# EAGLE library part RC2000MDEVICE (library RC2000M)
Rabbit 2000 Core Module
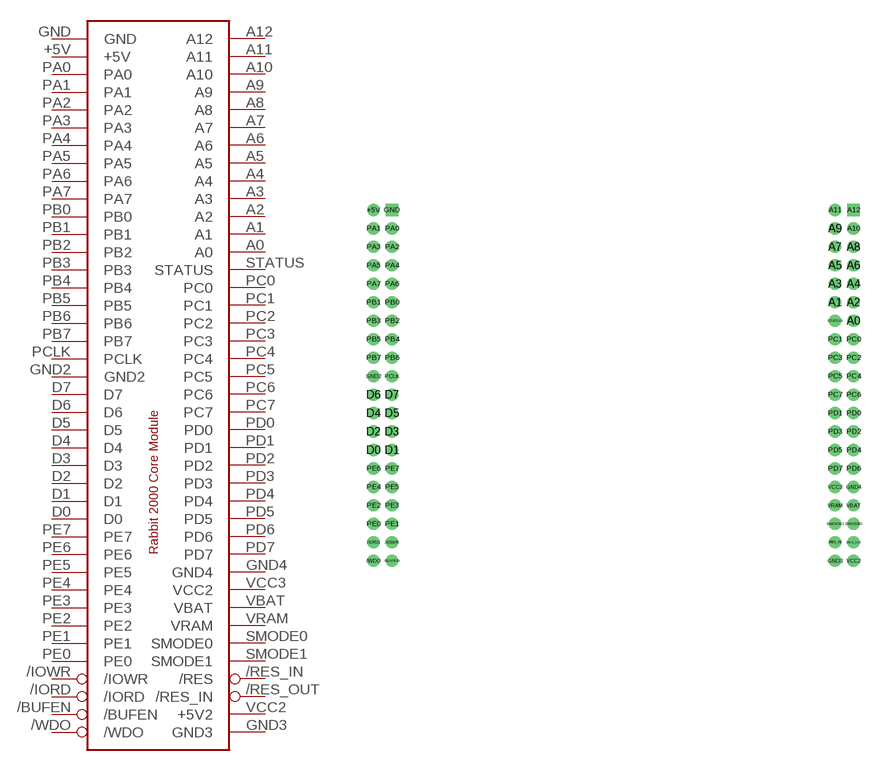
[diagram p0: symbol with the pads of RC2000M; footprint RC2000M]

Designator prefix RC

## RC2000MDEVICE  [RC2000M]
+5V  +5V  pwr
/BUFEN  /BUFEN
/IORD  /IORD
/IOWR  /IOWR
/RES_IN  /RES
/RES_OUT  /RES_IN
/WDO  /WDO
A0  A0
A1  A1
A2  A2
A3  A3
A4  A4
A5  A5
A6  A6
A7  A7
A8  A8
A9  A9
A10  A10
A11  A11
A12  A12
D0  D0
D1  D1
D2  D2
D3  D3
D4  D4
D5  D5
D6  D6
D7  D7
GND  GND  pwr
GND2  GND2  pwr
GND3  GND3  pwr
GND4  GND4
PA0  PA0
PA1  PA1
PA2  PA2
PA3  PA3
PA4  PA4
PA5  PA5
PA6  PA6
PA7  PA7
PB0  PB0
PB1  PB1
PB2  PB2
PB3  PB3
PB4  PB4
PB5  PB5
PB6  PB6
PB7  PB7
PC0  PC0
PC1  PC1
PC2  PC2
PC3  PC3
PC4  PC4
PC5  PC5
PC6  PC6
PC7  PC7
PCLK  PCLK
PD0  PD0
PD1  PD1
PD2  PD2
PD3  PD3
PD4  PD4
PD5  PD5
PD6  PD6
PD7  PD7
PE0  PE0
PE1  PE1
PE2  PE2
PE3  PE3
PE4  PE4
PE5  PE5
PE6  PE6
PE7  PE7
SMODE0  SMODE0
SMODE1  SMODE1
STATUS  STATUS
VBAT  VBAT  pwr
VCC2  +5V2  pwr
VCC3  VCC2
VRAM  VRAM  pwr

## Footprint RC2000M (pad centres in mm)
Rabbit 2000 Core Module package
drill 0.813 round: +5V 2,40; /BUFEN 4,2; /IORD 2,4; /IOWR 4,4; /RES_IN 52,4; /RES_OUT 54,4; /WDO 2,2; A0 54,28; A1 52,30; A2 54,30; A3 52,32; A4 54,32; A5 52,34; A6 54,34; A7 52,36; A8 54,36; A9 52,38; A10 54,38; A11 52,40; D0 2,14; D1 4,14; D2 2,16; D3 4,16; D4 2,18; D5 4,18; D6 2,20; D7 4,20; GND2 2,22; GND3 52,2; GND4 54,10; PA0 4,38; PA1 2,38; PA2 4,36; PA3 2,36; PA4 4,34; PA5 2,34; PA6 4,32; PA7 2,32; PB0 4,30; PB1 2,30; PB2 4,28; PB3 2,28; PB4 4,26; PB5 2,26; PB6 4,24; PB7 2,24; PC0 54,26; PC1 52,26; PC2 54,24; PC3 52,24; PC4 54,22; PC5 52,22; PC6 54,20; PC7 52,20; PCLK 4,22; PD0 54,18; PD1 52,18; PD2 54,16; PD3 52,16; PD4 54,14; PD5 52,14; PD6 54,12; PD7 52,12; PE0 2,6; PE1 4,6; PE2 2,8; PE3 4,8; PE4 2,10; PE5 4,10; PE6 2,12; PE7 4,12; SMODE0 54,6; SMODE1 52,6; STATUS 52,28; VBAT 54,8; VCC2 54,2; VCC3 52,10; VRAM 52,8
drill 0.813 square: A12 54,40; GND 4,40